# EAGLE library part HEADER-2X03 (library magzor)
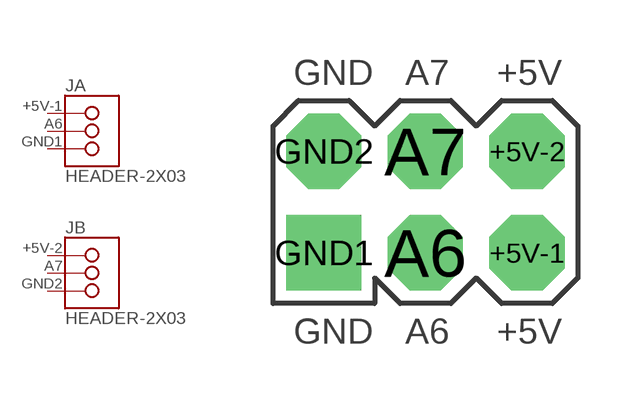
[diagram p17: symbol with the pads of HEADER-2X03-SPARE-ANALOG; footprint HEADER-2X03-SPARE-ANALOG]

Designator prefix J; gates A=HEADER-1X03 B=HEADER-1X03

## HEADER-2X03-A6-A7  [HEADER-2X03-SPARE-ANALOG]
+5V-1  A:1
+5V-2  B:1
A6  A:2
A7  B:2
GND1  A:3
GND2  B:3

## Footprint HEADER-2X03-SPARE-ANALOG (pad centres in mm)
drill 1.016 pad 1.88 octagon: +5V-1 2.54,-1.27; +5V-2 2.54,1.27; A6 0,-1.27; A7 0,1.27; GND2 -2.54,1.27
drill 1.016 pad 1.88 square: GND1 -2.54,-1.27